# EAGLE library part OPA693ID (library OPA693ID)
Ultra-Wideband, Fixed Gain Video Buffer Amplifier with Disable Source: Datasheet <http://www.ti.com/lit/gpn/opa693>
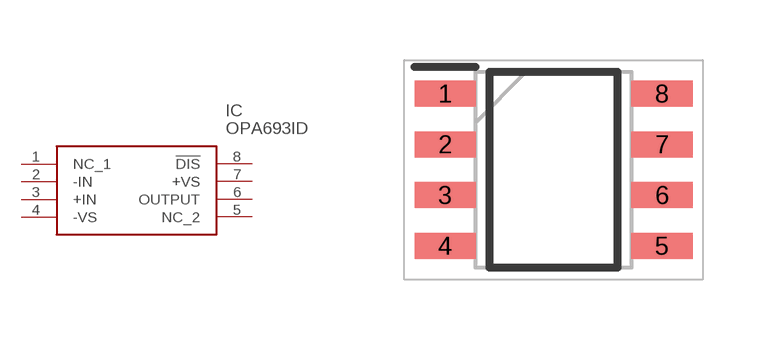
[diagram p0: symbol with the pads of SOIC127P600X175-8N; footprint SOIC127P600X175-8N]

Designator prefix IC

## OPA693ID (Description: Ultra-Wideband, Fixed Gain Video Buffer Amplifier with Disable; Height: 1.75mm; Manufacturer_Name: Texas Instruments; Manufacturer_Part_Number: OPA693ID; Mouser_Part_Number: 595-OPA693ID; Mouser_Price-Stock: https://www.mouser.co.uk/ProductDetail/Texas-Instruments/OPA693ID?qs=wgAEGBTxy7n5Zagrtgs30Q%3D%3D)  [SOIC127P600X175-8N]
1  NC_1
2  -IN
3  +IN
4  -VS
5  NC_2
6  OUTPUT
7  +VS
8  !DIS

## Footprint SOIC127P600X175-8N (pad centres in mm)
D0008A
smd 1.528 x 0.65: 1 -2.711,1.905; 2 -2.711,0.635; 3 -2.711,-0.635; 4 -2.711,-1.905; 5 2.711,-1.905; 6 2.711,-0.635; 7 2.711,0.635; 8 2.711,1.905